# Altium footprint library PcbLib-Knob.PcbLib: 2 footprints
Each footprint in its own frame and in the unit in brackets; x right, y up, seen from the top. Pads: shape width x height; smd on the part's side, far side on the other; paste and mask are expansions set on the pad; w line width, h text height; cw(c..) or ccw(c..) is an arc to the next point about the centre after c.
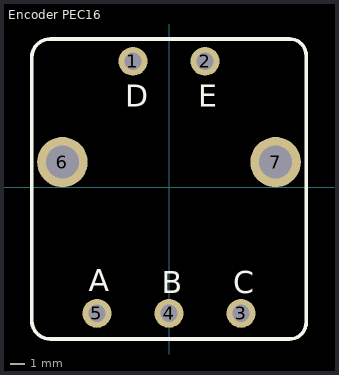
[diagram p0: the footprints below, top view; thin cyan lines are the x and y axes]

## Encoder PEC16 [mm] "Encoder PEC16-4220F-S0024"
pads (7):
  round 2 hole 1.2: 1(-2.5,8.75) 2(2.5,8.75) 3(5,-8.75) 4(0,-8.75) 5(-5,-8.75)
  round 3.5 hole 2.3: 6(-7.4,1.75) 7(7.4,1.75)
Top Overlay:
  lines w0.254: -9.525,-9.258 ccw(c-8.255,-9.258) -8.255,-10.528 8.255,-10.528 8.382,-10.528 ccw(c8.382,-9.385) 9.525,-9.385 9.525,-8.75 9.525,9.157 ccw(c8.382,9.157) 8.382,10.3 -8.255,10.3 ccw(c-8.255,9.03) -9.525,9.03 -9.525,-8.75 -9.525,-9.258
  text "A" at -5.588,-7.226 h1.52
  text "B" at -0.508,-7.353 h1.52
  text "C" at 4.445,-7.353 h1.52
  text "D" at -3.048,5.601 h1.52
  text "E" at 2.032,5.601 h1.52
3D body "User Library-Encoder PEC16-4220F-S0024 BOURNS.STEP": height 29, standoff -2.5, extent -8.25,-10.582 8.25,10.218

## PEC11 [mm]
3D body "PEC11R-4015F-N0024.stp": height 7.2, standoff -7.7, extent -7.65,-15.621 6.35,9.579